# EAGLE library part BAT54TW-7-F (library Diodes_Inc_By_element14_Batch_1)
SURFACE MOUNT SCHOTTKY BARRIER DIODE ARRAYS
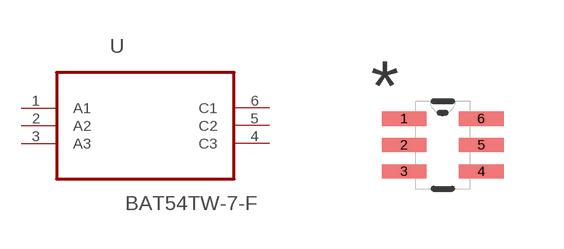
[diagram p15: symbol with the pads of SOT65P220X110-6N; footprint SOT65P220X110-6N]

Designator prefix U

## BAT54TW-7-F (MPN: BAT54TW-7-F; OC_FARNELL: 1858628; OC_NEWARK: 23T4528; PACKAGE: SOT-6; SUPPLIER: Diodes Inc)  [SOT65P220X110-6N]
1  A1  in
2  A2  in
3  A3  in
4  C3  out
5  C2  out
6  C1  out

## Footprint SOT65P220X110-6N (pad centres in mm)
smd 1.118 x 0.356: 1 -0.965,0.66; 2 -0.965,0; 3 -0.965,-0.66; 4 0.965,-0.66; 5 0.965,0; 6 0.965,0.66